# Altium schematic symbol library CMUDM8005-TR_PFET.SchLib: 1 symbol
Pins are listed as number, name and electrical type; pins without a type are passive.

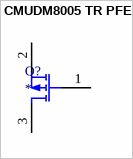
[diagram p0: symbol CMUDM8005 TR PFET]

## CMUDM8005 TR PFET
designator Q?
P-Channel 20V 650mA 300mW
pins: 1 G, 2 S, 3 D